# Altium footprint library samtec_ftsh-105-01-l-dv-k_keyed.PcbLib: 1 footprints
Each footprint in its own frame and in the unit in brackets; x right, y up, seen from the top. Pads: shape width x height; smd on the part's side, far side on the other; paste and mask are expansions set on the pad; w line width, h text height; cw(c..) or ccw(c..) is an arc to the next point about the centre after c.
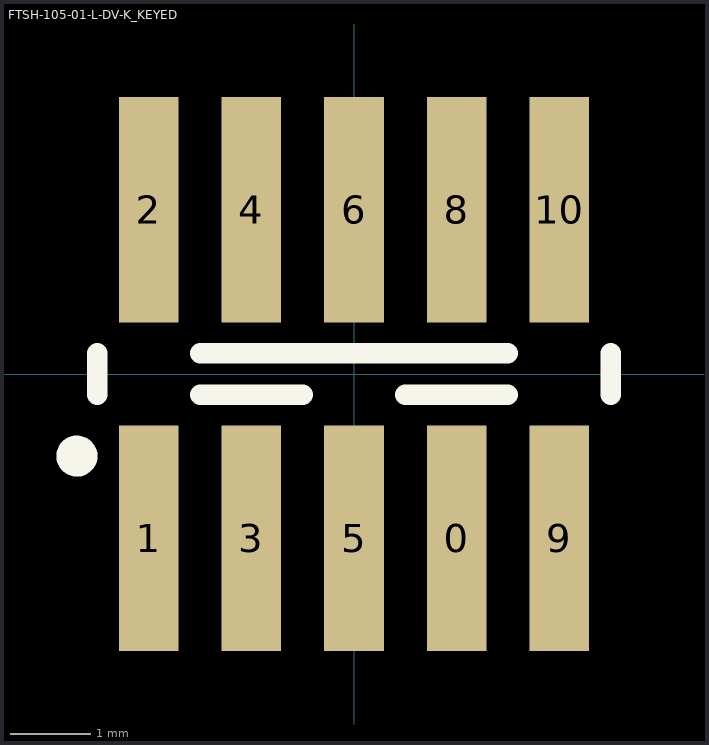
[diagram p0: the footprint, top view; thin cyan lines are the x and y axes]

## FTSH-105-01-L-DV-K_KEYED [mil] ".050\" Micro Terminal Strip PIN 7 REMOVED"
height 275
pads (10):
  rect 29x110 smd: 0(50,-80) 1(-100,-80) 2(-100,80) 3(-50,-80) 4(-50,80) 5(0,-80) 6(0,80) 8(50,80) 9(100,-80) 10(100,80)
Top Overlay:
  circle w10: c-135,-40 r5
  lines w10: -125,-10 -125,10 ; -75,-10 -25,-10 ; -75,10 75,10 ; 25,-10 75,-10 ; 125,-10 125,10
3D body "Samtec-FTSH-105-01-L-DV-K_KEYED.STEP": height 240, standoff -1, extent -124.99,-114.99 125.01,115